# Altium footprint library SW_TACTILE_SPST_NO_SMD.PcbLib: 1 footprints
Each footprint in its own frame and in the unit in brackets; x right, y up, seen from the top. Pads: shape width x height; smd on the part's side, far side on the other; paste and mask are expansions set on the pad; w line width, h text height; cw(c..) or ccw(c..) is an arc to the next point about the centre after c.
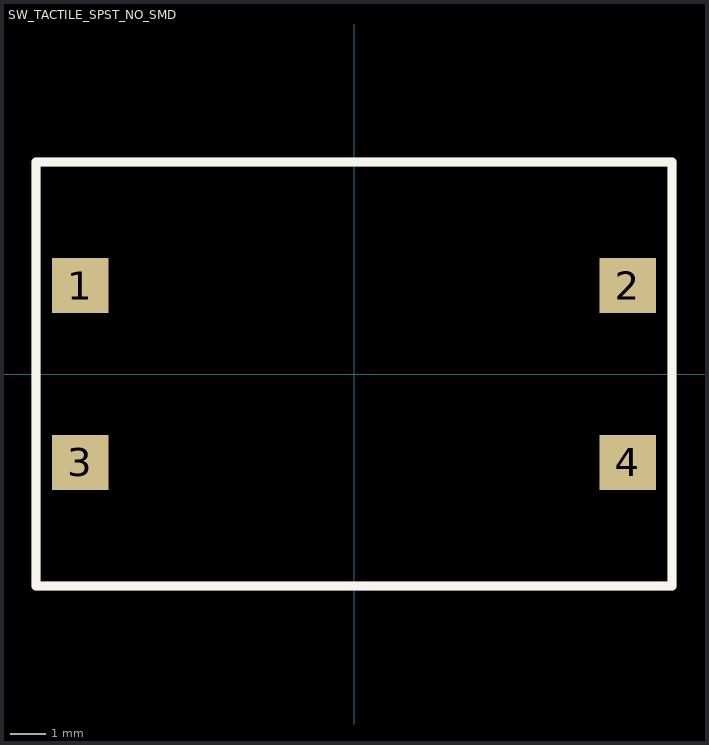
[diagram p0: the footprint, top view; thin cyan lines are the x and y axes]

## SW_TACTILE_SPST_NO_SMD [mil] "SW_TACTILE_SPST_NO_SMD"
pads (4):
  rect 63x61 smd: 1(-305,98.5) 2(305,98.5) 3(-305,-98.5) 4(305,-98.5)
Top Overlay:
  lines w10: -354.33,-236.22 354.33,-236.22 354.33,236.22 -354.33,236.22 -354.33,-236.22
Mechanical 1:
  lines w10: -354.33,-236.22 354.33,-236.22 354.33,236.22 -354.33,236.22 -354.33,-236.22
  text ".DESIGNATOR" at -245.44,-20 h75
3D body "SW_TACTILE_SPST_NO_SMD.STEP": height 288.08, standoff 0.5, extent -296.18,-236.22 306.18,236.22